# Altium footprint library HyTechDevices.PCBLIB: 209 footprints (part 11 of 14)
Each footprint in its own frame and in the unit in brackets; x right, y up, seen from the top. Pads: shape width x height; smd on the part's side, far side on the other; paste and mask are expansions set on the pad; w line width, h text height; cw(c..) or ccw(c..) is an arc to the next point about the centre after c.
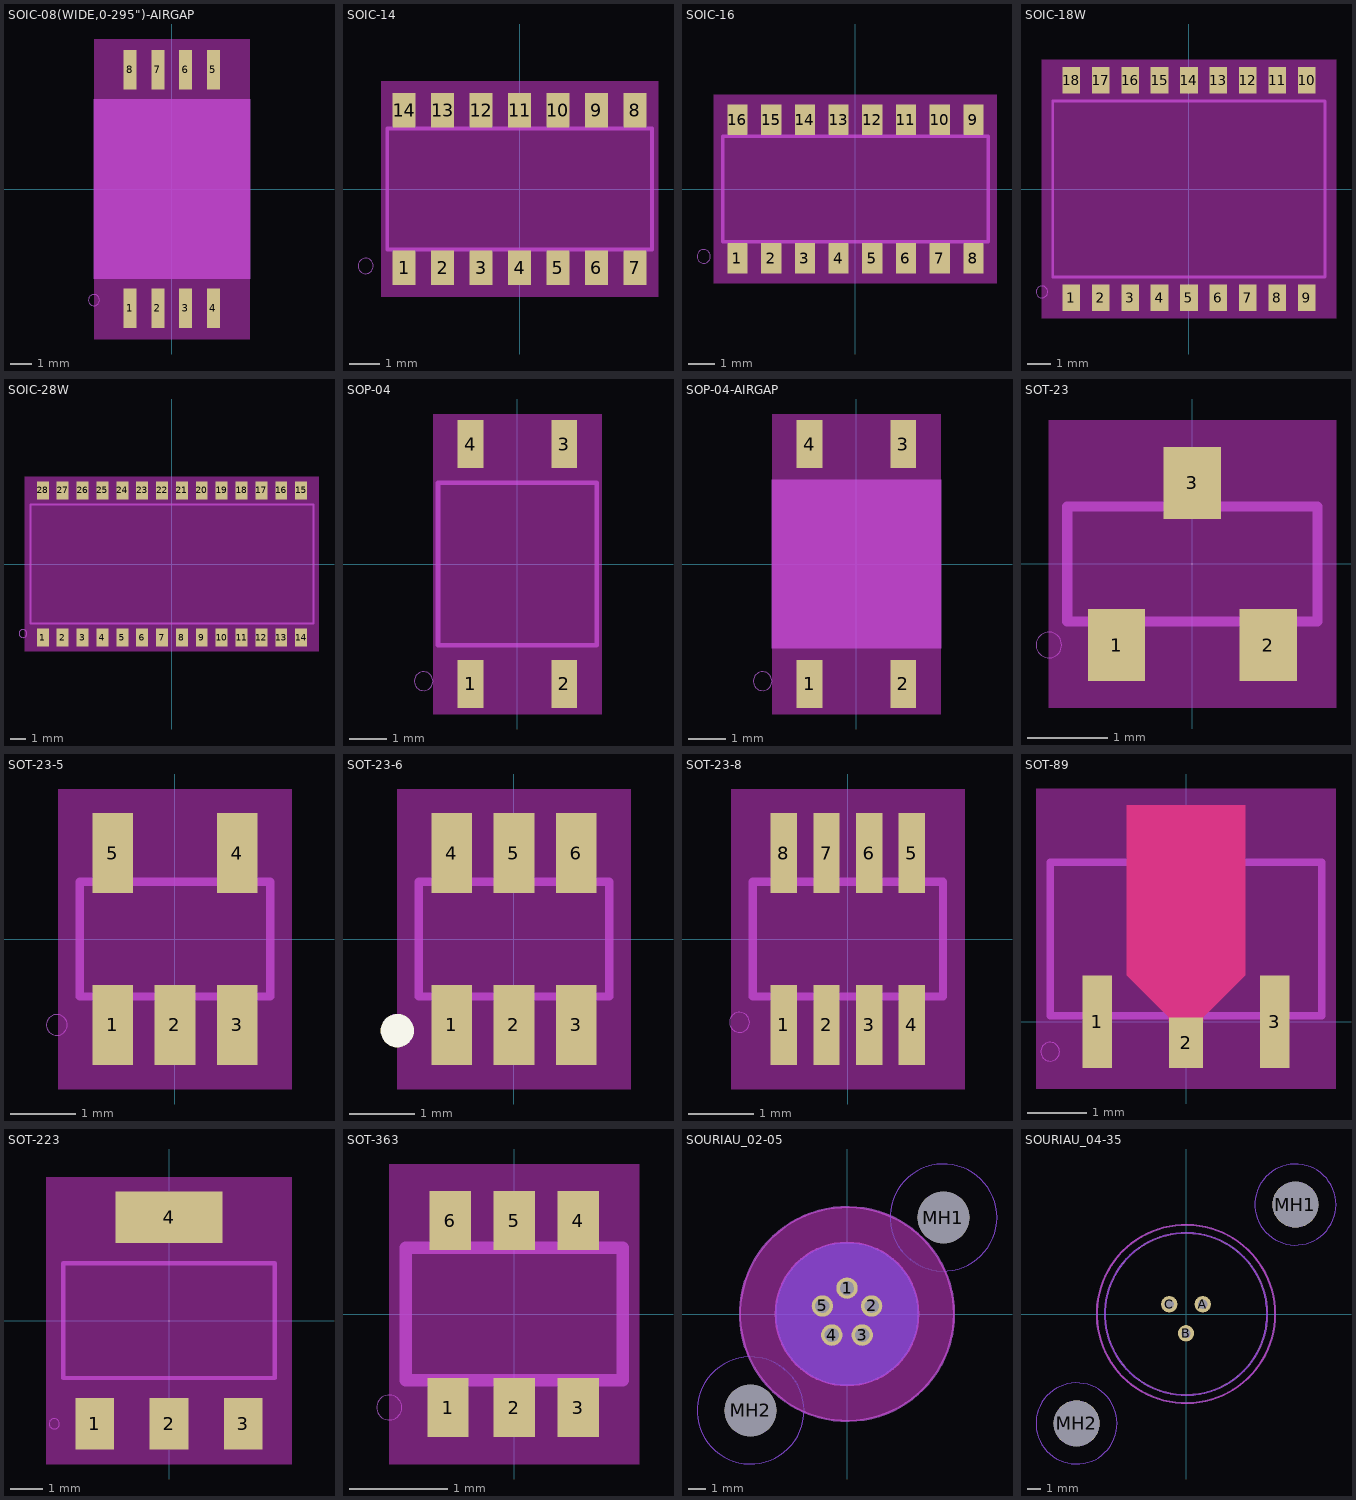
[diagram p10: the footprints below, top view; thin cyan lines are the x and y axes]

## SOIC-08(WIDE,0-295")-AIRGAP [mil]
pads (8):
  rect 23.62x70.87 smd: 1(-75,-214.57) 2(-25,-214.57) 3(25,-214.57) 4(75,-214.57) 5(75,214.57) 6(25,214.57) 7(-25,214.57) 8(-75,214.57)
Top keep-out:
  region: -140,-270 -140,270 140,270 140,-270
Dimension:
  region: 140,-161.81 -140,-161.81 -140,161.81 140,161.81
Milling:
  lines w0: -140,-161.81 140,-161.81 140,161.81 -140,161.81 -140,-161.81
tPlace:
  circle w0: c-140,-200 r10
  lines w6: -117.13,-150 117.13,-150 117.13,150 -117.13,150 -117.13,-150

## SOIC-14 [mil]
pads (14):
  rect 30x45 smd: 1(-150,-102.5) 2(-100,-102.5) 3(-50,-102.5) 4(0,-102.5) 5(50,-102.5) 6(100,-102.5) 7(150,-102.5) 8(150,102.5) 9(100,102.5) 10(50,102.5) 11(0,102.5) 12(-50,102.5) 13(-100,102.5) 14(-150,102.5)
Top keep-out:
  region: -180,-140 -180,140 180,140 180,-140
tPlace:
  circle w0: c-200,-100 r10
  lines w5: -172,-78.5 172,-78.5 172,78.5 -172,78.5 -172,-78.5

## SOIC-16 [mil]
pads (16):
  rect 30x45 smd: 1(-175,-102.5) 2(-125,-102.5) 3(-75,-102.5) 4(-25,-102.5) 5(25,-102.5) 6(75,-102.5) 7(125,-102.5) 8(175,-102.5) 9(175,102.5) 10(125,102.5) 11(75,102.5) 12(25,102.5) 13(-25,102.5) 14(-75,102.5) 15(-125,102.5) 16(-175,102.5)
Top keep-out:
  region: -210,-140 -210,140 210,140 210,-140
tPlace:
  circle w0: c-225,-100 r10
  lines w5: -197,-78.5 197,-78.5 197,78.5 -197,78.5 -197,-78.5

## SOIC-18W [mil]
pads (18):
  rect 30x45 smd: 1(-200,-185) 2(-150,-185) 3(-100,-185) 4(-50,-185) 5(0,-185) 6(50,-185) 7(100,-185) 8(150,-185) 9(200,-185) 10(200,185) 11(150,185) 12(100,185) 13(50,185) 14(0,185) 15(-50,185) 16(-100,185) 17(-150,185) 18(-200,185)
Top keep-out:
  region: -250,-220 -250,220 250,220 250,-220
tPlace:
  circle w0: c-250,-175 r10
  lines w5: -231.5,-149.5 231.5,-149.5 231.5,149.5 -231.5,149.5 -231.5,-149.5

## SOIC-28W [mil]
pads (28):
  rect 30x45 smd: 1(-325,-185) 2(-275,-185) 3(-225,-185) 4(-175,-185) 5(-125,-185) 6(-75,-185) 7(-25,-185) 8(25,-185) 9(75,-185) 10(125,-185) 11(175,-185) 12(225,-185) 13(275,-185) 14(325,-185) 15(325,185) 16(275,185) 17(225,185) 18(175,185) 19(125,185) 20(75,185) 21(25,185) 22(-25,185) 23(-75,185) 24(-125,185) 25(-175,185) 26(-225,185) 27(-275,185) 28(-325,185)
Top keep-out:
  region: -370,-220 -370,220 370,220 370,-220
tPlace:
  circle w0: c-375,-175 r10
  lines w5: -356,-149.5 356,-149.5 356,149.5 -356,149.5 -356,-149.5

## SOP-04 [mil]
pads (4):
  rect 27.56x51.18 smd: 1(-50,-127.95) 2(50,-127.95) 3(50,127.95) 4(-50,127.95)
Top keep-out:
  region: -90,-160 -90,160 90,160 90,-160
tPlace:
  circle w0: c-100,-125 r10
  lines w5: -84.65,-86.61 84.65,-86.61 84.65,86.61 -84.65,86.61 -84.65,-86.61

## SOP-04-AIRGAP [mil]
pads (4):
  rect 27.56x51.18 smd: 1(-50,-127.95) 2(50,-127.95) 3(50,127.95) 4(-50,127.95)
Top keep-out:
  region: -90,-160 -90,160 90,160 90,-160
Dimension:
  region: -90,-90 -90,90 90,90 90,-90
  lines w0: -90,-90 90,-90 90,90 -90,90 -90,-90
tPlace:
  circle w0: c-100,-125 r10
  lines w5: -84.65,-86.61 84.65,-86.61 84.65,86.61 -84.65,86.61 -84.65,-86.61

## SOT-23 [mil]
pads (3):
  rect 28x35 smd: 1(-37,-39.5) 2(37,-39.5) 3(0,39.5)
Top keep-out:
  region: -70,-70 -70,70 70,70 70,-70
tPlace:
  circle w0: c-70,-39.5 r6.25
  lines w5: -61,-28 61,-28 61,28 -61,28 -61,-28

## SOT-23-5 [mm]
pads (5):
  rect 0.62x1.22 smd: 1(-0.95,-1.31) 2(0,-1.31) 3(0.95,-1.31) 4(0.95,1.31) 5(-0.95,1.31)
Top keep-out:
  region: -1.778,-2.286 -1.778,2.286 1.778,2.286 1.778,-2.286
tPlace:
  circle w0: c-1.8,-1.31 r0.159
  lines w0.127: -1.45,-0.875 1.45,-0.875 1.45,0.875 -1.45,0.875 -1.45,-0.875

## SOT-23-6 [mm]
pads (6):
  rect 0.62x1.22 smd: 1(-0.95,-1.31) 2(0,-1.31) 3(0.95,-1.31) 4(-0.95,1.31) 5(0,1.31) 6(0.95,1.31)
Top keep-out:
  region: -1.778,-2.286 -1.778,2.286 1.778,2.286 1.778,-2.286
Top Overlay:
  circle w0.254: c-1.778,-1.397 r0.127
tPlace:
  circle w0: c-1.8,-1.31 r0.159
  lines w0.127: -1.45,-0.875 -1.45,0.875 1.45,0.875 1.45,-0.875 -1.45,-0.875
3D body "TPS54202DDCR.stp": height 1.1, standoff 0, extent -1.45,-1.4 1.45,1.4

## SOT-23-8 [mil]
pads (8):
  rect 15.75x48.03 smd: 1(-38.39,-51.57) 2(-12.8,-51.57) 3(12.8,-51.57) 4(38.39,-51.57) 5(38.39,51.57) 6(12.8,51.57) 7(-12.8,51.57) 8(-38.39,51.57)
Top keep-out:
  region: -70,-90 -70,90 70,90 70,-90
tPlace:
  circle w0: c-65,-50 r6
  lines w5: -57.09,-34.45 57.09,-34.45 57.09,34.45 -57.09,34.45 -57.09,-34.45

## SOT-89 [mil]
pads (3):
  rect 19.69x61.81 smd: 1(-59.06,0) 3(59.06,0)
  rect 22.83x33.86 smd: 2(0,-13.98)
Top:
  region: -39.37,144.29 -39.37,30.91 -11.42,2.95 -11.42,0 11.42,0 11.42,2.95 39.37,30.91 39.37,144.29
Top keep-out:
  region: -100,-44.88 -100,155.12 100,155.12 100,-44.88
Top Paste:
  region: -39.37,144.29 -39.37,30.91 -11.42,2.95 -11.42,0 11.42,0 11.42,2.95 39.37,30.91 39.37,144.29
Top Solder:
  region: -43.31,148.23 -43.31,28.11 -14.21,0.16 -11.42,0 11.42,0 14.21,0.16 43.31,28.11 43.31,148.23
tPlace:
  circle w0: c-90.55,-20 r6.25
  lines w5: -90.55,3.94 90.55,3.94 90.55,106.3 -90.55,106.3 -90.55,3.94

## SOT-223 [mil]
pads (4):
  rect 47.24x62.99 smd: 1(-90.55,-125.98) 2(0,-125.98) 3(90.55,-125.98)
  rect 129.92x62.99 smd: 4(0,125.98)
Top keep-out:
  region: -150,-175 -150,175 150,175 150,-175
tPlace:
  circle w0: c-140,-125.98 r6.25
  lines w5: -128.94,-69.88 128.94,-69.88 128.94,69.88 -128.94,69.88 -128.94,-69.88

## SOT-363 [mm]
pads (6):
  rect 0.42x0.6 smd: 1(-0.673,-0.95) 2(0,-0.95) 3(0.65,-0.95) 4(0.65,0.95) 5(0,0.95) 6(-0.65,0.95)
Top keep-out:
  region: -1.27,-1.524 -1.27,1.524 1.27,1.524 1.27,-1.524
tPlace:
  circle w0: c-1.27,-0.95 r0.127
  lines w0.127: -1.1,-0.675 1.1,-0.675 1.1,0.675 -1.1,0.675 -1.1,-0.675

## SOURIAU_02-05 [mil]
pads (7):
  round 47.24 hole 31.5: 1(0,57.09) 2(54.33,17.72) 3(33.46,-46.46) 4(-33.46,-46.46) 5(-54.33,17.72)
  round 114.17 hole 114.17 unplated: MH1(212.97,212.97) MH2(-212.97,-212.97)
Top keep-out:
  circle w236.22: c0,0 r118.11
  circle w0: c212.97,212.97 r118.11
  circle w0: c212.97,212.97 r118.11
  circle w0: c-212.97,-212.97 r118.11
  circle w0: c-212.97,-212.97 r118.11
Bottom keep-out:
  circle w157.48: c0,0 r78.74
  circle w0: c212.97,212.97 r118.11
  circle w0: c212.97,212.97 r118.11
  circle w0: c-212.97,-212.97 r118.11
  circle w0: c-212.97,-212.97 r118.11
tPlace:
  circle w5: c0,0 r236.22
bPlace:
  circle w5: c0,0 r157.48

## SOURIAU_04-35 [mm]
pads (5):
  round 1.208 hole 0.7: A(1.24,0.72) B(0,-1.43) C(-1.24,0.72)
  round 3.4 hole 3.4 unplated: MH1(8.1,8.1) MH2(-8.1,-8.1)
Top keep-out:
  circle w0: c0,0 r6.6
  circle w0: c8.1,8.1 r3
  circle w0: c-8.1,-8.1 r3
  circle w0: c-8.1,-8.1 r3
  circle w0: c8.1,8.1 r3
Bottom keep-out:
  circle w0: c0,0 r6
  circle w0: c8.1,8.1 r3
  circle w0: c-8.1,-8.1 r3
  circle w0: c-8.1,-8.1 r3
  circle w0: c8.1,8.1 r3
tPlace:
  circle w0.152: c0,0 r6.6
bPlace:
  circle w0.152: c0,0 r6